# Altium schematic symbol library SCH - POWER - SWITCHMODE - TI TPS51215ARUK.SchLib: 1 symbol
Pins are listed as number, name and electrical type; pins without a type are passive.

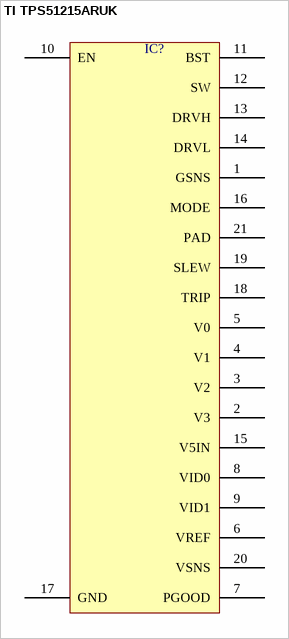
[diagram p0: symbol TI TPS51215ARUK]

## TI TPS51215ARUK
designator IC?  (value not drawn)
pins: 1 GSNS, 2 V3, 3 V2, 4 V1, 5 V0, 6 VREF, 7 PGOOD, 8 VID0, 9 VID1, 10 EN, 11 BST, 12 SW, 13 DRVH, 14 DRVL, 15 V5IN, 16 MODE, 17 GND, 18 TRIP, 19 SLEW, 20 VSNS, 21 PAD